# Altium schematic symbol library USB4120-03-C.SchLib: 1 symbol
Pins are listed as number, name and electrical type; pins without a type are passive.

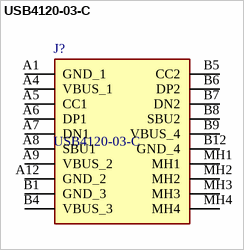
[diagram p0: symbol USB4120-03-C]

## USB4120-03-C
designator J?
USB Connectors USB C Rec 3u" vert 16P SMT & TH stakes pegs T+R+C H = 9.25; Manufacturer_Name: GCT (GLOBAL CONNECTOR TECHNOLOGY); Geometry.Height: 6.75mm; Mouser Part Number: 640-USB4120-03-C; Mouser Price/Stock: https://www.mouser.co.uk/ProductDetail/GCT/USB4120-03-C?qs=KUoIvG%2F9IlZaAd13sVDhkQ%3D%3D; Manufacturer_Part_Number: USB4120-03-C; Datasheet Link: https://gct.co/connector/usb4120
footprint USB412003C
pins: A1 GND_1, A4 VBUS_1, A5 CC1, A6 DP1, A7 DN1, A8 SBU1, A9 VBUS_2, A12 GND_2, B1 GND_3, B4 VBUS_3, B5 CC2, B6 DP2, B7 DN2, B8 SBU2, B9 VBUS_4, B12 GND_4, MH1, MH2, MH3, MH4